# EAGLE library part HMC65 (library Hittite)
HMC652LP2E HMC653LP2E HMC654LP2E HMC655LP2E HMC656LP2E HMC657LP2E HMC658LP2E WIDEBAND FIXED ATTENUATOR FAMILY, DC - 25 GHz
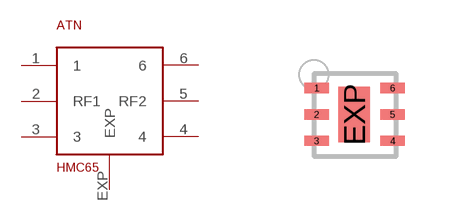
[diagram p0: symbol with the pads of DFN-6_LP2; footprint DFN-6_LP2]

Designator prefix ATN

## HMC652LP2E (ATTENUATION: 2 dB), HMC653LP2E (ATTENUATION: 3 dB), HMC654LP2E (ATTENUATION: 4 dB), HMC655LP2E (ATTENUATION: 6 dB), HMC656LP2E (ATTENUATION: 10 dB), HMC657LP2E (ATTENUATION: 15 dB), HMC658LP2E (ATTENUATION: 20 dB)  [DFN-6_LP2]
1  1  pwr
2  RF1
3  3  pwr
4  4  pwr
5  RF2
6  6  pwr
EXP  EXP  pwr

## Footprint DFN-6_LP2 (pad centres in mm)
smd 0.61 x 0.254: 1 -0.953,0.686; 2 -0.953,0.025; 3 -0.953,-0.635; 4 0.953,-0.635; 5 0.953,0.025; 6 0.953,0.686
smd 0.787 x 1.397: EXP -0.013,0.025